# Altium footprint library PCB1.PcbLib: 6 footprints
Each footprint in its own frame and in the unit in brackets; x right, y up, seen from the top. Pads: shape width x height; smd on the part's side, far side on the other; paste and mask are expansions set on the pad; w line width, h text height; cw(c..) or ccw(c..) is an arc to the next point about the centre after c.
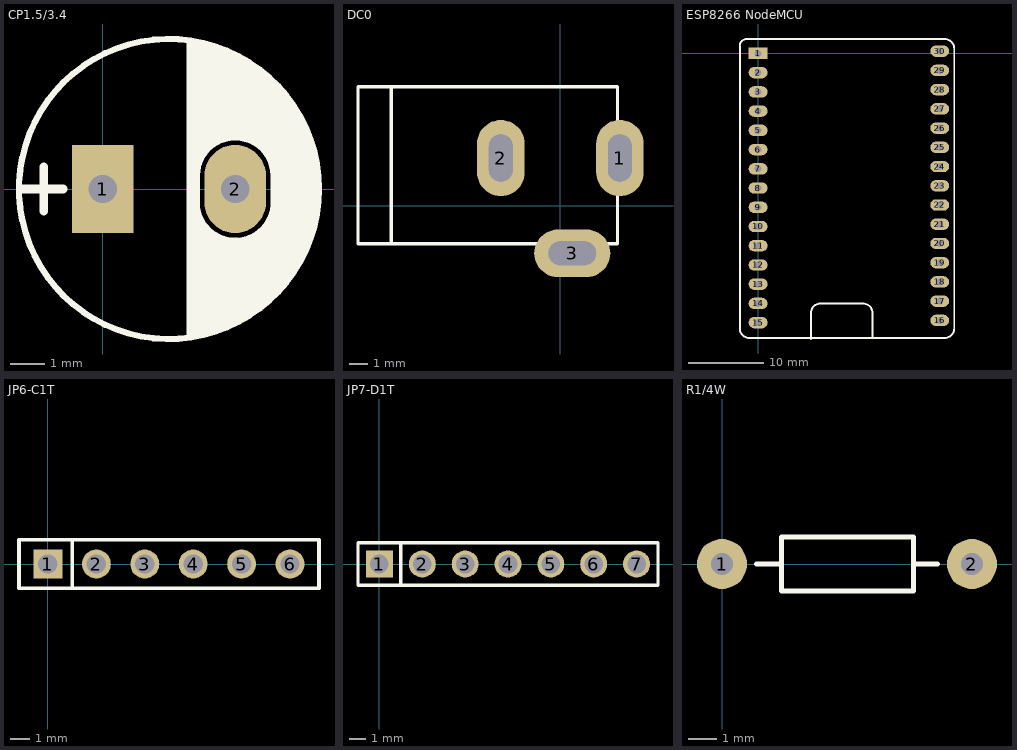
[diagram p0: the footprints below, top view; thin cyan lines are the x and y axes]

## CP1.5/3.4 [mil] "Tu hoa 220->470uF,16V, 470uF/16V,25V"
height 300
pads (2):
  rect 70x100 hole 32: 1(0,0)
  oval 70x100 hole 32: 2(150,0)
Top Overlay:
  circle w7: c75,0 r170
  region: 100,25 135,60 162.93,60 164.6,59.92 167.88,59.26 170.98,57.98 173.76,56.12 175,55 181.46,48.54 182.26,47.66 183.57,45.69 184.48,43.5 184.94,41.18 185,40 190,35 191.12,33.76 192.98,30.98 194.26,27.88 194.92,24.6 195,22.93 195,-27.93 194.92,-29.6 194.26,-32.88 192.98,-35.98 191.12,-38.76 190,-40 178.54,-51.46 177.66,-52.26 175.69,-53.57 173.5,-54.48 171.18,-54.94 170,-55 168.76,-56.12 165.98,-57.98 162.88,-59.26 159.6,-59.92 157.93,-60 144.14,-60 140.8,-59.84 134.23,-58.53 128.05,-55.97 122.48,-52.25 120,-50 108.54,-38.54 107.74,-37.66 106.43,-35.69 105.52,-33.5 105.06,-31.18 105,-30 100,-30 100,-170 155,-150 195,-120 225,-80 245,-20 245,20 230,70 200,115 165,145 120,165 100,170
  lines w10: -90,0 -45,0 ; -67,-25 -67,25 ; 100,-165 100,165 ; 100,25 105,25 ; 105,-20 105,30 ; 105,-10 ccw(c150,-15) 145,-60 ccw(c150,-15) 195,-20 195,15 ccw(c150,15) 150,60 ccw(c150,15) 105,15
3D body "User Library-CAP 8X11_5.STEP": height 445.89, standoff -754.41, extent -84.96,-157.48 230,157.48

## DC0 [mil] "Jac DC input"
height 200
pads (3):
  oval 100x160 hole 50 slot 100 at 90 deg: 1(125,100) 2(-125,100)
  oval 160x100 hole 50 slot 100 at 0 deg: 3(25,-100)
Top Overlay:
  lines w7: -355,-80 -355,250 ; -425,-80 120,-80 120,250 -425,250 -425,-80
3D body "SW3dPS-dc range - dc connector[4840.2201].STEP": height 433.67, standoff -137.2, extent -410.35,-105.12 134,269.12

## ESP8266 NodeMCU [mm]
pads (30):
  rect 2.5x1.5 hole 0.9: 1(0,0)
  oval 2.5x1.5 hole 0.9: 2(0,-2.54) 3(0,-5.08) 4(0,-7.62) 5(0,-10.16) 6(0,-12.7) 7(0,-15.24) 8(0,-17.78) 9(0,-20.32) 10(0,-22.86) 11(0,-25.4) 12(0,-27.94) 13(0,-30.48) 14(0,-33.02) 15(0,-35.56) 16(24,-35.26) 17(24,-32.72) 18(24,-30.18) 19(24,-27.64) 20(24,-25.1) 21(24,-22.56) 22(24,-20.02) 23(24,-17.48) 24(24,-14.94) 25(24,-12.4) 26(24,-9.86) 27(24,-7.32) 28(24,-4.78) 29(24,-2.24) 30(24,0.3)
Top Overlay:
  lines w0.254: 6.985,-37.719 6.985,-34.29 cw(c8.255,-34.29) 8.255,-33.02 13.843,-33.02 cw(c13.843,-34.29) 15.113,-34.29 15.113,-37.465 ; -2.413,-36.322 ccw(c-1.143,-36.322) -1.143,-37.592 24.638,-37.592 ccw(c24.638,-36.322) 25.908,-36.322 25.908,0.635 ccw(c24.638,0.635) 24.638,1.905 -1.524,1.905 ccw(c-1.524,1.016) -2.413,1.016 -2.413,-36.322

## JP6-C1T [mm] "6 row, straight, gold plating"
height 8.5
pads (6):
  rect 1.52x1.52 hole 1.02: 1(0,0)
  round 1.52 hole 1.02: 2(2.54,0) 3(5.08,0) 4(7.62,0) 5(10.16,0) 6(12.7,0)
Top Overlay:
  lines w0.2: 1.27,-1.27 1.27,1.27 ; -1.52,-1.27 14.22,-1.27 14.22,1.27 -1.52,1.27 -1.52,-1.27
3D body "61300611821.stp": height 8.51, standoff -3.09, extent -1.52,-1.25 14.22,1.25

## JP7-D1T [mm] "7 pins, 1 row, straight, gold plating"
height 8.54
pads (7):
  rect 1.6x1.6 hole 1.1: 1(0,0)
  round 1.6 hole 1.1: 2(2.54,0) 3(5.08,0) 4(7.62,0) 5(10.16,0) 6(12.7,0) 7(15.24,0)
Top Overlay:
  lines w0.2: 1.27,-1.27 1.27,1.27 ; -1.27,-1.27 -1.27,1.27 16.51,1.27 16.51,-1.27 -1.27,-1.27
3D body "61300711121.stp": height 8.54, standoff -3, extent -1.27,-1.27 16.51,1.27

## R1/4W [mil] "R 1/4W, 2 Pin, 350mil"
height 100
pads (2):
  round 70 hole 31: 1(0,0) 2(350,0)
Top Overlay:
  lines w7: 48,0 83,0 ; 268,0 302,0 ; 83,-38 268,-38 268,38 83,38 83,-38
3D body "SW3dPS-AXIAL_RESISTOR(0.25W).STEP": height 111.42, standoff -50, extent -39.6,-47 385.6,47.49